# EAGLE library part CP2200-GQ (library silabs-eth)
SINGLE-CHIP ETHERNET CONTROLLER The CP2200 has an IEEE 802.3 compliant 10 BASE-T Ethernet
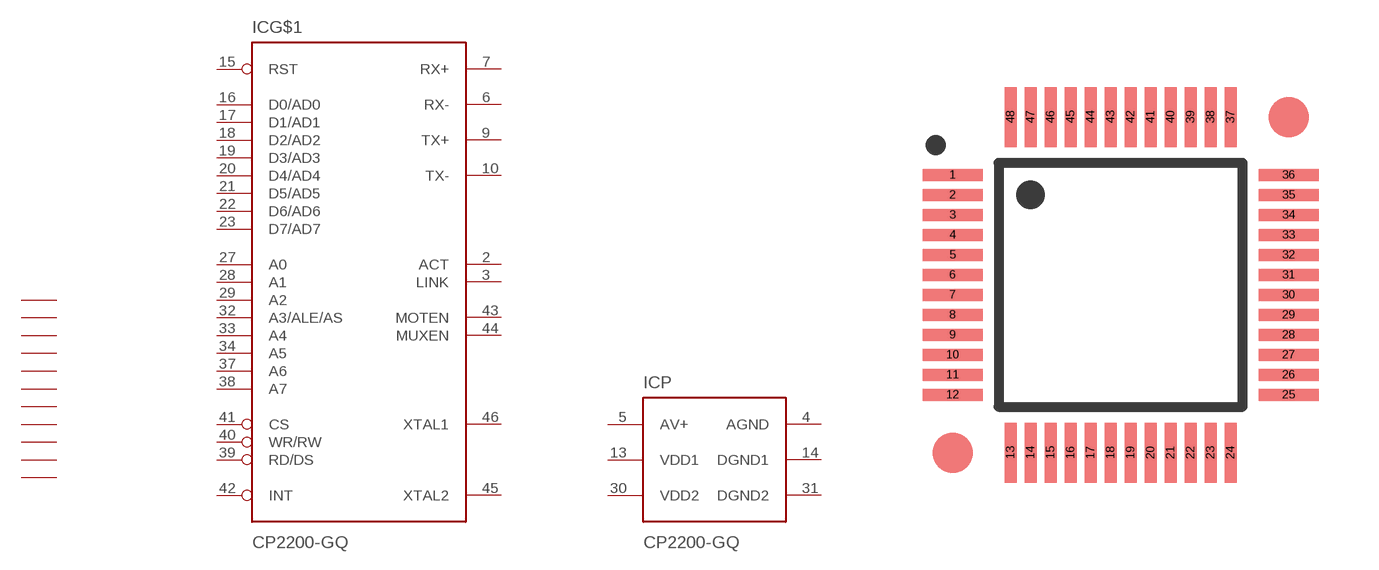
[diagram p0: symbol with the pads of TQFP-48; footprint TQFP-48]

Designator prefix IC; gates G$1=CP2200 P=CP2200-PWR N=CC2200-NC

## CP2200-GQ  [TQFP-48]
1  N:NC1  nc
2  G$1:ACT  out
3  G$1:LINK  out
4  P:AGND  pwr
5  P:AV+  pwr
6  G$1:RX-  in
7  G$1:RX+  in
8  N:NC2  nc
9  G$1:TX+  out
10  G$1:TX-  out
11  N:NC3  nc
12  N:NC4  nc
13  P:VDD1  pwr
14  P:DGND1  pwr
15  G$1:RST  in
16  G$1:D0/AD0
17  G$1:D1/AD1
18  G$1:D2/AD2
19  G$1:D3/AD3
20  G$1:D4/AD4
21  G$1:D5/AD5
22  G$1:D6/AD6
23  G$1:D7/AD7
24  N:NC5  nc
25  N:NC6  nc
26  N:NC7  nc
27  G$1:A0  in
28  G$1:A1  in
29  G$1:A2  in
30  P:VDD2  pwr
31  P:DGND2  pwr
32  G$1:A3/ALE/AS  in
33  G$1:A4  in
34  G$1:A5  in
35  N:NC8  nc
36  N:NC9  nc
37  G$1:A6  in
38  G$1:A7  in
39  G$1:RD/DS  in
40  G$1:WR/RW  in
41  G$1:CS  in
42  G$1:INT  out
43  G$1:MOTEN  in
44  G$1:MUXEN  in
45  G$1:XTAL2  out
46  G$1:XTAL1  in
47  N:NC10  nc
48  N:NC11  nc

## Footprint TQFP-48 (pad centres in mm)
TQFP-48 Package IPC7351 - TSQFP50P900X900X120-48N
smd 1.5 x 0.3: 1 -4.2,2.75; 2 -4.2,2.25; 3 -4.2,1.75; 4 -4.2,1.25; 5 -4.2,0.75; 6 -4.2,0.25; 7 -4.2,-0.25; 8 -4.2,-0.75; 9 -4.2,-1.25; 10 -4.2,-1.75; 11 -4.2,-2.25; 12 -4.2,-2.75; 25 4.2,-2.75; 26 4.2,-2.25; 27 4.2,-1.75; 28 4.2,-1.25; 29 4.2,-0.75; 30 4.2,-0.25; 31 4.2,0.25; 32 4.2,0.75; 33 4.2,1.25; 34 4.2,1.75; 35 4.2,2.25; 36 4.2,2.75
smd 0.3 x 1.5: 13 -2.75,-4.2; 14 -2.25,-4.2; 15 -1.75,-4.2; 16 -1.25,-4.2; 17 -0.75,-4.2; 18 -0.25,-4.2; 19 0.25,-4.2; 20 0.75,-4.2; 21 1.25,-4.2; 22 1.75,-4.2; 23 2.25,-4.2; 24 2.75,-4.2; 37 2.75,4.2; 38 2.25,4.2; 39 1.75,4.2; 40 1.25,4.2; 41 0.75,4.2; 42 0.25,4.2; 43 -0.25,4.2; 44 -0.75,4.2; 45 -1.25,4.2; 46 -1.75,4.2; 47 -2.25,4.2; 48 -2.75,4.2